# Altium schematic symbol library R-CRCW060310K0FKEA.Schlib: 1 symbol
Pins are listed as number, name and electrical type; pins without a type are passive.

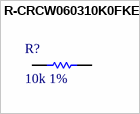
[diagram p0: symbol R-CRCW060310K0FKEA]

## R-CRCW060310K0FKEA
designator R?, comment 10k 1%
Thick Film Resistors - SMD 1/10watt 10Kohms 1%
pins: 1, 2